# Altium footprint library trafo-hammondmfg.PCBLIB: 17 footprints (part 2 of 2)
Each footprint in its own frame and in the unit in brackets; x right, y up, seen from the top. Pads: shape width x height; smd on the part's side, far side on the other; paste and mask are expansions set on the pad; w line width, h text height; cw(c..) or ccw(c..) is an arc to the next point about the centre after c.
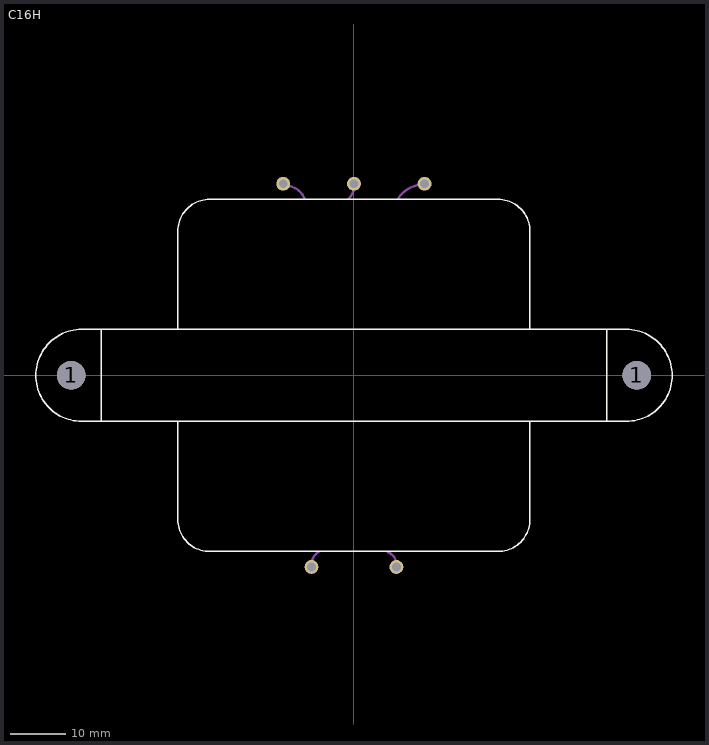
[diagram p1: the footprint, top view; thin cyan lines are the x and y axes]

## C16H [mil]
pads (7):
  round 203 hole 203: 1(-2000,0) 1(2000,0)
  round 98.43 hole 62.99: BLK@1(-300,-1355.04) BLK@2(300,-1355.04) GRN/YEL(0,1355.04) GRN@1(-500,1355.04) GRN@2(500,1355.04)
Top Overlay:
  lines w10: -1787.3,-325 -1924.8,-325 cw(c-1924.8,0) -2249.8,0 cw(c-1924.8,0) -1924.8,325 -1787.3,325 ; -1787.3,-325 -1245.43,-325 ; -1787.3,-325 -1787.3,325 ; -1787.3,325 -1245.43,325 ; -1245.43,-325 1244.45,-325 ; -1245.43,-325 -1245.43,-1020.04 ccw(c-1020.43,-1020.04) -1020.43,-1245.04 1019.45,-1245.04 ccw(c1019.45,-1020.04) 1244.45,-1020.04 1244.45,-325 ; -1245.43,325 1244.45,325 ; -1245.43,325 -1245.43,1020.04 cw(c-1020.43,1020.04) -1020.43,1245.04 1019.45,1245.04 cw(c1019.45,1020.04) 1244.45,1020.04 1244.45,325 ; 1244.45,-325 1788.29,-325 ; 1244.45,325 1788.29,325 ; 1788.29,-325 1925.79,-325 ccw(c1925.79,0) 2250.79,0 ccw(c1925.79,0) 1925.79,325 1788.29,325 ; 1788.29,-325 1788.29,325
Mechanical 16:
  lines w16: -500,1350 -450,1337.5 cw(c-485.31,1196.25) -350,1250 ; -300,-1350 -300,-1337.5 cw(c-198.44,-1337.5) -250,-1250 ; -37.5,1250 ccw(c-120.83,1337.5) 0,1337.5 0,1362.5 ; 237.5,-1250 cw(c207.5,-1337.5) 300,-1337.5 300,-1350 ; 312.5,1250 cw(c492.71,1134.38) 425,1337.5 500,1362.5